# Altium footprint library RSL10_PcbLib.PcbLib: 26 footprints (part 2 of 2)
Each footprint in its own frame and in the unit in brackets; x right, y up, seen from the top. Pads: shape width x height; smd on the part's side, far side on the other; paste and mask are expansions set on the pad; w line width, h text height; cw(c..) or ccw(c..) is an arc to the next point about the centre after c.
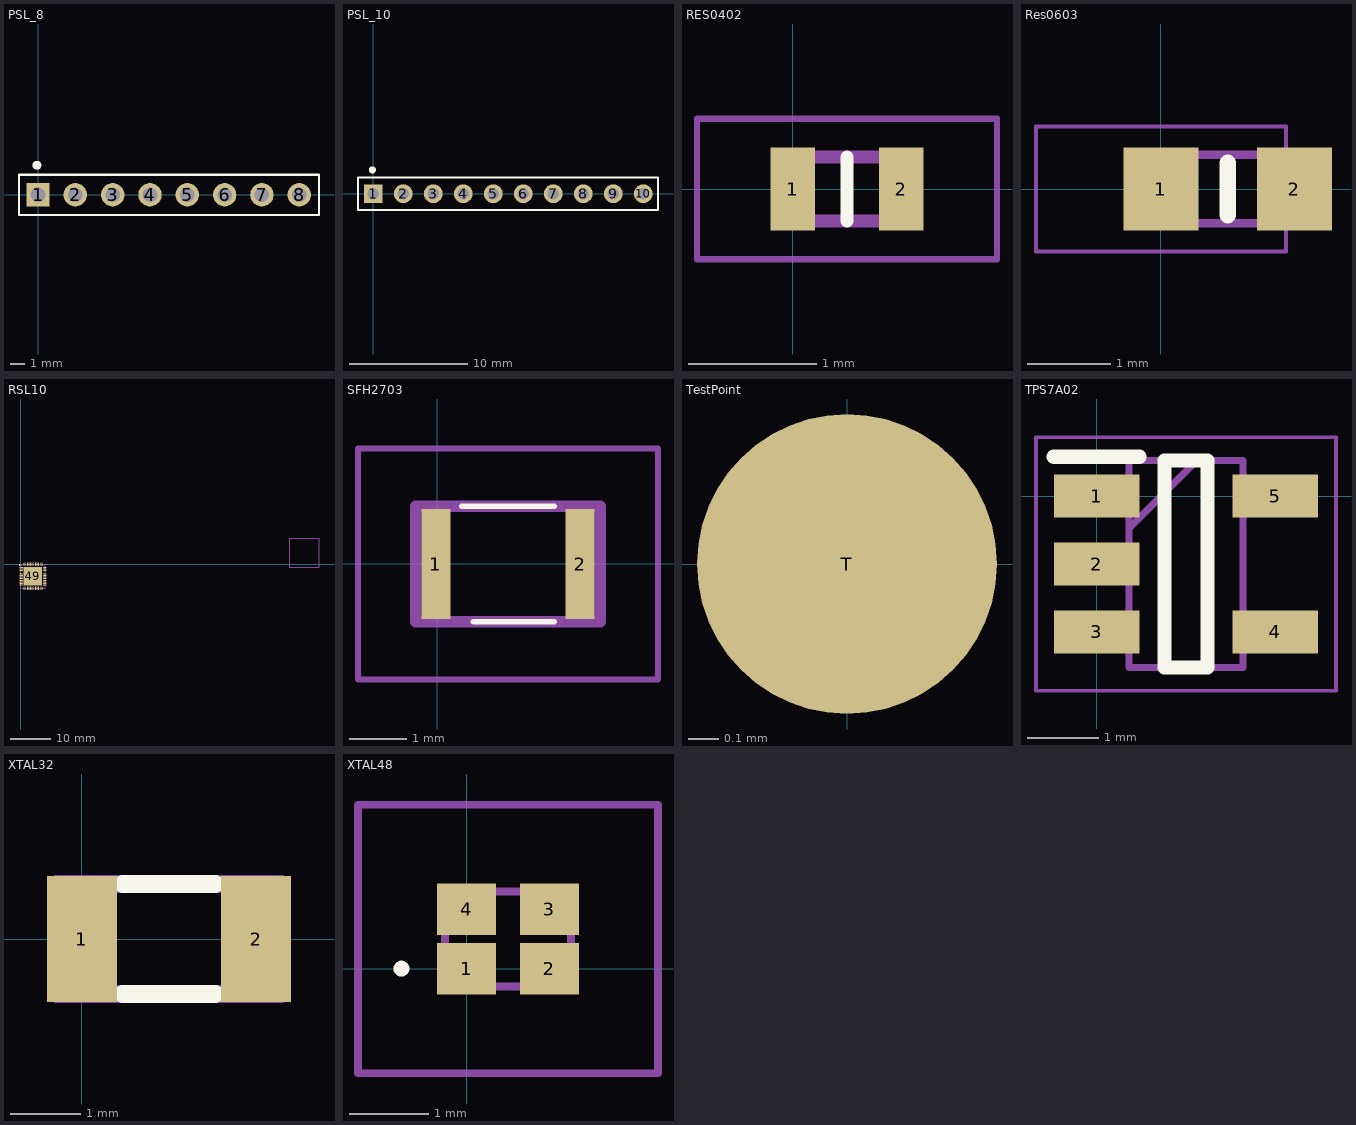
[diagram p1: the footprints below, top view; thin cyan lines are the x and y axes]

## PSL_8 [mm]
pads (8):
  rect 1.6x1.6 hole 1: 1(0,0)
  round 1.6 hole 1: 2(2.55,0) 3(5.1,0) 4(7.65,0) 5(10.2,0) 6(12.75,0) 7(15.3,0) 8(17.85,0)
Top Overlay:
  circle w0.3: c-0.075,2.025 r0.15
  lines w0.15: -1.3,-1.375 19.2,-1.375 19.2,1.375 -1.3,1.375 -1.3,-1.375
3D body "1x8 Male Pin Header.STEP": height 10.54, standoff -3, extent -1.27,-1.25 19.055,1.25

## PSL_10 [mm]
pads (10):
  rect 1.6x1.6 hole 1: 1(0,0)
  round 1.6 hole 1: 2(2.55,0) 3(5.1,0) 4(7.65,0) 5(10.2,0) 6(12.75,0) 7(15.3,0) 8(17.85,0) 9(20.4,0) 10(22.95,0)
Top Overlay:
  circle w0.3: c-0.075,2.025 r0.15
  lines w0.15: -1.3,-1.375 -1.3,1.375 24.2,1.375 24.2,0.888 24.2,-0.488 24.2,-1.375 -1.3,-1.375
3D body "1x10 Male Pin Header.STEP": height 10.54, standoff -3, extent -1.27,-1.25 24.135,1.25

## RES0402 [mm]
pads (2):
  rect 0.35x0.65 smd: 1(0,0) 2(0.85,0)
Top Overlay:
  lines w0.1: 0.425,-0.25 0.425,0.25
Mechanical 15:
  lines w0.1: -0.075,-0.25 -0.075,0.25 0.925,0.25 0.925,-0.25 -0.075,-0.25
Mechanical 20:
  lines w0.05: -0.75,-0.55 -0.75,0.55 1.6,0.55 1.6,-0.55 -0.75,-0.55
3D body "CRCW0402100RFKED.stp": height 0.35, standoff 0, extent -0.075,-0.25 0.925,0.25

## Res0603 [mm]
pads (2):
  rect 0.9x1 smd: 1(0,0) 2(1.6,0)
Top Overlay:
  lines w0.2: 0.8,-0.312 0.8,0.312
Mechanical 15:
  lines w0.1: 0,-0.412 0,0.412 1.6,0.412 1.6,-0.412 0,-0.412
Mechanical 20:
  lines w0.05: -1.5,-0.75 -1.5,0.75 1.5,0.75 1.5,-0.75 -1.5,-0.75
3D body "CRGH0603J1M0.stp": height 0.55, standoff 0, extent 0,-0.413 1.6,0.413

## RSL10 [mm]
pads (49):
  rect 0.85x0.2 smd: 1(0.05,-0.8) 2(0.05,-1.2) 3(0.05,-1.6) 4(0.05,-2) 5(0.05,-2.4) 6(0.05,-2.8) 7(0.05,-3.2) 8(0.05,-3.6) 9(0.05,-4) 10(0.05,-4.4) 11(0.05,-4.8) 12(0.05,-5.2) 25(5.95,-5.2) 26(5.95,-4.8) 27(5.95,-4.4) 28(5.95,-4) 29(5.95,-3.6) 30(5.95,-3.2) 31(5.95,-2.8) 32(5.95,-2.4) 33(5.95,-2) 34(5.95,-1.6) 35(5.95,-1.2) 36(5.95,-0.8)
  rect 0.2x0.85 smd: 13(0.8,-5.95) 14(1.2,-5.95) 15(1.6,-5.95) 16(2,-5.95) 17(2.4,-5.95) 18(2.8,-5.95) 19(3.2,-5.95) 20(3.6,-5.95) 21(4,-5.95) 22(4.4,-5.95) 23(4.8,-5.95) 24(5.2,-5.95) 37(5.2,-0.05) 38(4.8,-0.05) 39(4.4,-0.05) 40(4,-0.05) 41(3.6,-0.05) 42(3.2,-0.05) 43(2.8,-0.05) 44(2.4,-0.05) 45(2,-0.05) 46(1.6,-0.05) 47(1.2,-0.05) 48(0.8,-0.05)
  rect 4.6x4.6 smd: 49(3,-3)
Top Overlay:
  circle w0.2: c-0.375,-0.2 r0.1
Mechanical 15:
  lines w0.1: 0,-0.4 0.4,0 ; 0,-6 0,0 6,0 6,-6 0,-6
Mechanical 20:
  lines w0.05: 66.832,-0.772 66.832,6.478 74.082,6.478 74.082,-0.772 66.832,-0.772
3D body "NCH-RSL10-101Q48-ABG.stp": height 1, standoff 0, extent -0.05,-6.025 6.05,0.075

## SFH2703 [mm]
pads (2):
  rect 0.5x1.9 smd: 1(-0.022,-0.003) 2(2.478,-0.003)
Top Overlay:
  lines w0.1: 0.428,0.997 2.028,0.997 ; 0.628,-1.003 2.028,-1.003
Mechanical 15:
  lines w0.2: -0.372,-1.003 2.828,-1.003 2.828,0.997 -0.372,0.997 -0.372,-1.003
Mechanical 20:
  lines w0.1: -1.372,-2.003 3.828,-2.003 3.828,1.997 -1.372,1.997 -1.372,-2.003
3D body "SFH_2703.stp": height 0.6, standoff 0, extent -0.375,-1 2.825,1

## TestPoint [mm]
pads (1):
  round 1 smd: T(0,0)

## TPS7A02 [mm]
pads (5):
  rect 1.2x0.6 smd: 1(0,0) 2(0,-0.95) 3(0,-1.9) 4(2.5,-1.9) 5(2.5,0)
Top Overlay:
  lines w0.2: -0.6,0.55 0.6,0.55 ; 0.95,-2.4 1.55,-2.4 1.55,0.5 0.95,0.5 0.95,-2.4
Mechanical 15:
  lines w0.1: 0.45,-0.45 1.4,0.5 ; 0.45,-2.4 2.05,-2.4 2.05,0.5 0.45,0.5 0.45,-2.4
Mechanical 20:
  lines w0.05: -0.85,-2.725 3.35,-2.725 3.35,0.825 -0.85,0.825 -0.85,-2.725
3D body "TPS7A0218DBVR.stp": height 1.45, standoff 0, extent -0.15,-2.4 2.65,0.5

## XTAL32 [mil]
pads (2):
  rect 39.4x70.9 smd paste+0 mask+2: 1(0,0) 2(98,0)
Top Overlay:
  lines w10: 23,-31.02 75,-31.02 ; 23,30.98 75,30.98
Mechanical 15:
  lines w10: -14,-31.02 112,-31.02 112,30.98 -14,30.98 -14,-31.02
3D body "FC-135_32.7680KA-AG0.stp": height 35.43, standoff 0, extent -11.81,-29.53 114.17,29.53

## XTAL48 [mm]
pads (4):
  rect 0.75x0.65 smd: 1(0,0) 2(1.05,0) 3(1.05,0.75) 4(0,0.75)
Top Overlay:
  lines w0.1: -0.875,0 cw(c-0.825,0) -0.775,0 cw(c-0.825,0) -0.875,0
Mechanical 15:
  lines w0.1: -0.275,-0.225 -0.275,0.975 1.325,0.975 1.325,-0.225 -0.275,-0.225
Mechanical 20:
  lines w0.1: -1.375,-1.325 -1.375,2.075 2.425,2.075 2.425,-1.325 -1.375,-1.325
3D body "ECS-480-8-47-JTN-TR.stp": height 0.45, standoff 0, extent -0.31,-0.26 1.36,1.01